# EAGLE library part PCM2906B (library wheat)
USB CODEC, TI PCM2906B
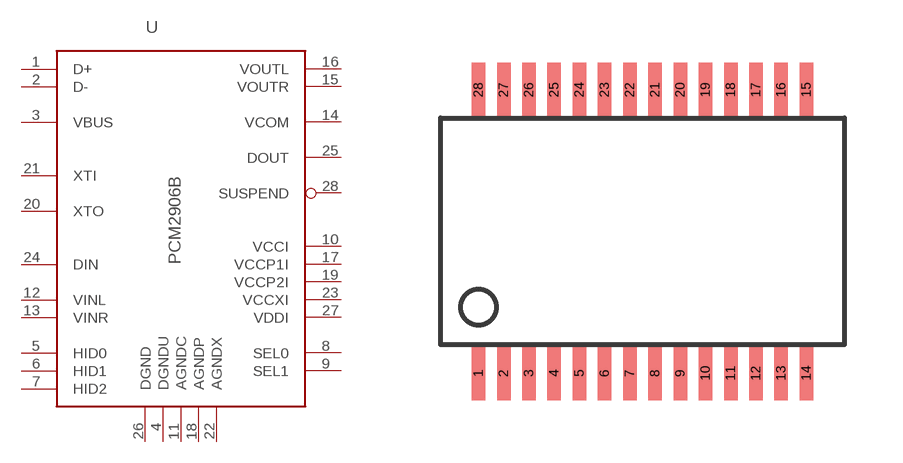
[diagram p110: symbol with the pads of TSSOP28; footprint TSSOP28]

Designator prefix U

## PCM2906BDB  [TSSOP28]
1  D+
2  D-
3  VBUS  in
4  DGNDU  pwr
5  HID0  in
6  HID1  in
7  HID2  in
8  SEL0  in
9  SEL1  in
10  VCCI  out
11  AGNDC  pwr
12  VINL  in
13  VINR  in
14  VCOM  out
15  VOUTR  out
16  VOUTL  out
17  VCCP1I  out
18  AGNDP  pwr
19  VCCP2I  out
20  XTO  out
21  XTI  in
22  AGNDX  pwr
23  VCCXI  out
24  DIN  out
25  DOUT  out
26  DGND  pwr
27  VDDI  out
28  SUSPEND  out

## Footprint TSSOP28 (pad centres in mm)
TSSOP28, 0.65MM PITCH
smd 0.348 x 1.397: 1 -4.225,-3.656; 2 -3.575,-3.656; 3 -2.925,-3.656; 4 -2.275,-3.656; 5 -1.625,-3.656; 6 -0.975,-3.656; 7 -0.325,-3.656; 8 0.325,-3.656; 9 0.975,-3.656; 10 1.625,-3.656; 11 2.275,-3.656; 12 2.925,-3.656; 13 3.575,-3.656; 14 4.225,-3.656; 15 4.225,3.656; 16 3.575,3.656; 17 2.925,3.656; 18 2.275,3.656; 19 1.625,3.656; 20 0.975,3.656; 21 0.325,3.656; 22 -0.325,3.656; 23 -0.975,3.656; 24 -1.625,3.656; 25 -2.275,3.656; 26 -2.925,3.656; 27 -3.575,3.656; 28 -4.225,3.656